# Altium footprint library SG__PCB_DIP_SIP.PcbLib: 17 footprints (part 1 of 2)
Each footprint in its own frame and in the unit in brackets; x right, y up, seen from the top. Pads: shape width x height; smd on the part's side, far side on the other; paste and mask are expansions set on the pad; w line width, h text height; cw(c..) or ccw(c..) is an arc to the next point about the centre after c.
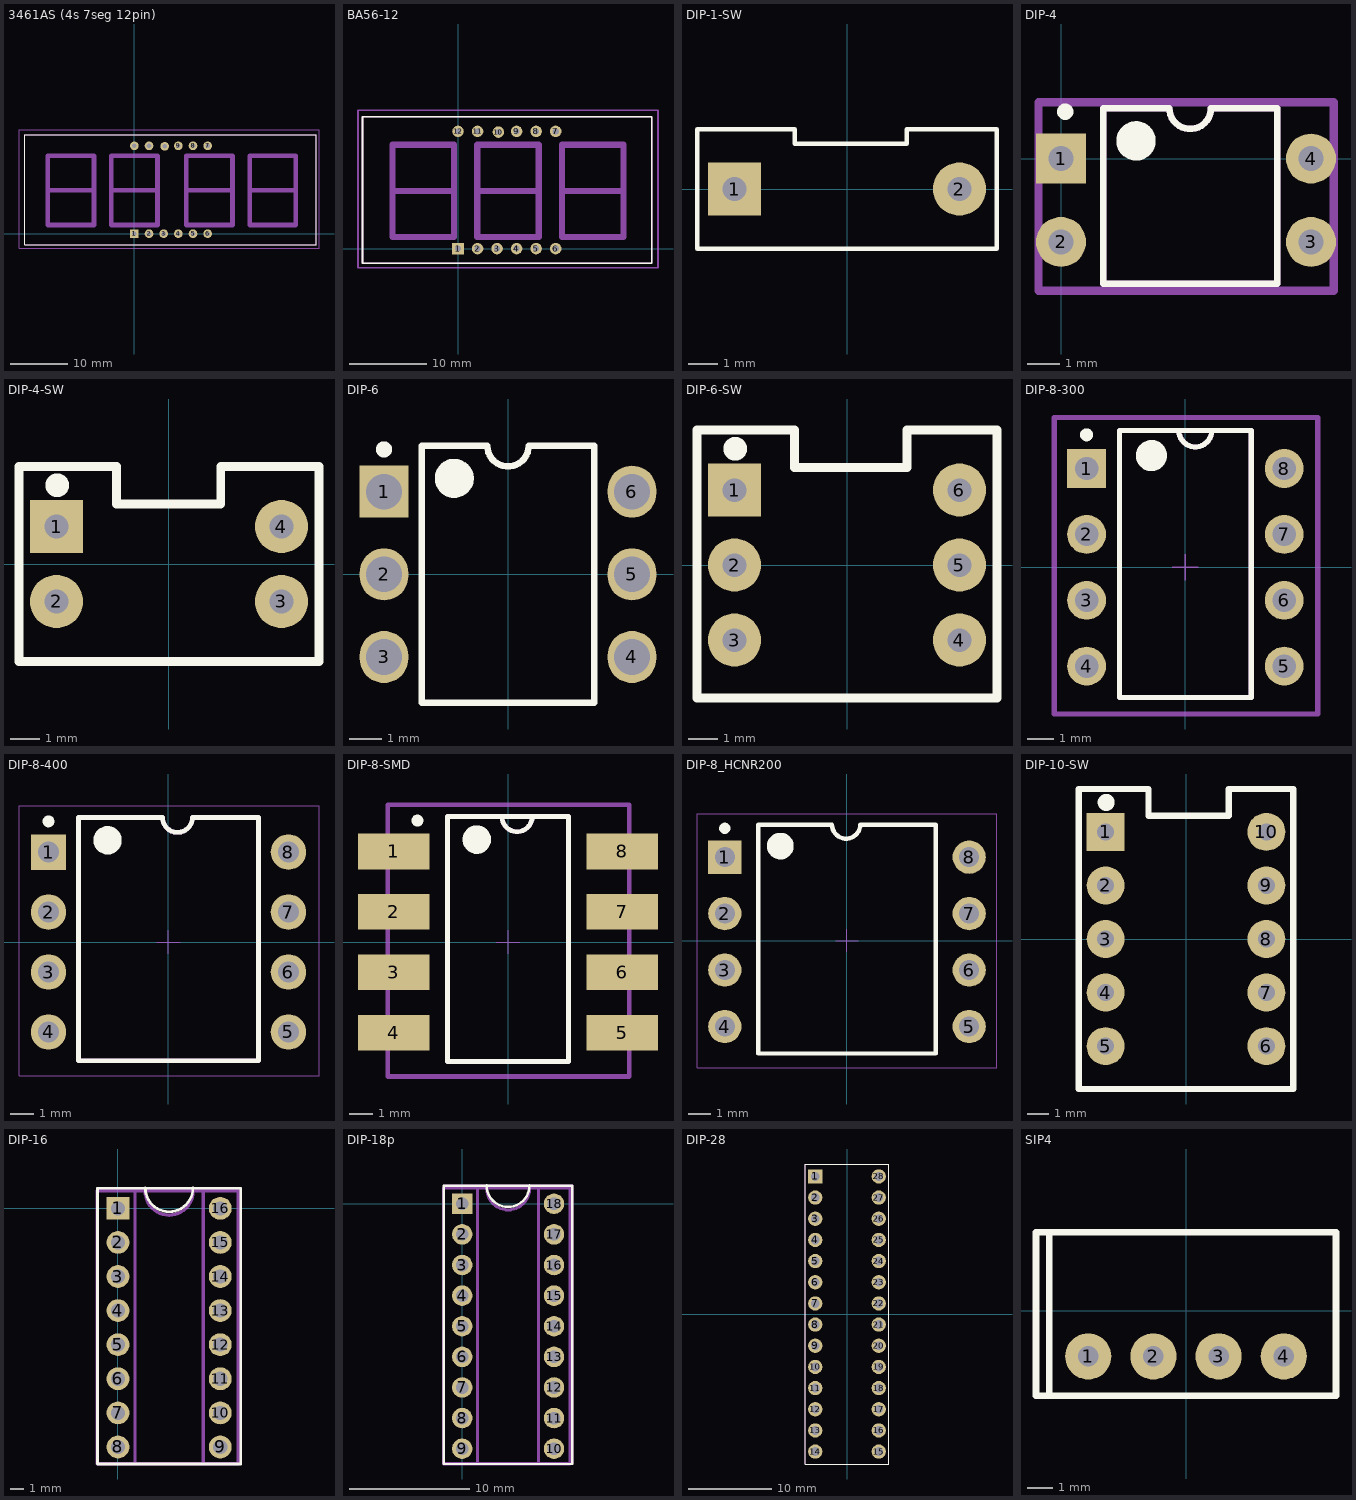
[diagram p0: the footprints below, top view; thin cyan lines are the x and y axes]

## 3461AS (4s 7seg 12pin) [mm] "4 digits 7segment dynamic indicator"
pads (12):
  rect 1.5x1.5 hole 0.8: 1(0,0)
  round 1.5 hole 0.8: 2(2.54,0) 3(5.08,0) 4(7.62,0) 5(10.16,0) 6(12.7,0) 7(12.7,15.24) 8(10.16,15.24) 9(7.62,15.24) 10(5.25,15.149) 11(2.54,15.24) 12(0,15.24)
Top Overlay:
  lines w0.2: -19,-1.887 -19,17.113 31.5,17.113 31.5,-1.887 -19,-1.887
Top Assembly:
  lines w0.2: -19,-1.887 -19,17.113 31.5,17.113 31.5,-1.887 -19,-1.887
  lines w0.8: -15,7.5 -7,7.5 ; -4,7.5 4,7.5 ; 9,7.5 17,7.5 ; 20,7.5 28,7.5 ; -15,1.5 -7,1.5 -7,13.5 -15,13.5 -15,1.5 ; -4,1.5 4,1.5 4,13.5 -4,13.5 -4,1.5 ; 9,1.5 17,1.5 17,13.5 9,13.5 9,1.5 ; 20,1.5 28,1.5 28,13.5 20,13.5 20,1.5
Top Courtyard:
  lines w0.2: -20,-2.5 -20,18 32,18 32,-2.5 -20,-2.5
3D body "7x4seg.step": height 10.5, standoff -2, extent -18.765,-1.887 31.535,17.113

## BA56-12 [mm] "3 digits 7segment dynamic indicator"
pads (12):
  rect 1.5x1.5 hole 0.8: 1(0,0)
  round 1.5 hole 0.8: 2(2.54,0) 3(5.08,0) 4(7.62,0) 5(10.16,0) 6(12.7,0) 7(12.7,15.24) 8(10.16,15.24) 9(7.62,15.24) 10(5.25,15.149) 11(2.54,15.24) 12(0,15.24)
Top Overlay:
  lines w0.2: -12.415,-1.887 25.185,-1.887 25.185,17.113 -12.415,17.113 -12.415,-1.887
Top Assembly:
  lines w0.2: -12.415,-1.887 25.185,-1.887 25.185,17.113 -12.415,17.113 -12.415,-1.887
  lines w0.8: -8.5,7.5 -0.5,7.5 ; 2.5,7.5 10.5,7.5 ; 13.5,7.5 21.5,7.5 ; -8.5,1.5 -0.5,1.5 -0.5,13.5 -8.5,13.5 -8.5,1.5 ; 2.5,1.5 10.5,1.5 10.5,13.5 2.5,13.5 2.5,1.5 ; 13.5,1.5 21.5,1.5 21.5,13.5 13.5,13.5 13.5,1.5
Top Courtyard:
  lines w0.2: -13,-2.5 26,-2.5 26,18 -13,18 -13,-2.5
3D body "BX56-12.stp": height 10, standoff -2.1, extent -12.415,-1.887 25.185,17.113

## DIP-1-SW [mm]
pads (2):
  rect 1.8x1.8 hole 0.8: 1(-3.81,0)
  round 1.8 hole 0.8: 2(3.81,0)
Top Overlay:
  lines w0.152: -5.08,-2.028 5.08,-2.028 5.08,2.032 2.032,2.032 2.032,1.532 -1.778,1.532 -1.778,2.032 -5.08,2.032 -5.08,-2.028

## DIP-4 [mil]
pads (4):
  rect 60x60 hole 30: 1(0,0)
  round 60 hole 30: 2(0,-100) 3(300,-100) 4(300,0)
Top Overlay:
  circle w23.62: c90.04,21.22 r11.81
  circle w9.84: c5,56.26 r4.92
  lines w7.87: 50.67,-150.43 259.33,-150.43 259.33,60.59 180,60.59 cw(c155,60.59) 130,60.59 50.67,60.59 50.67,-150.43
Top Assembly:
  lines w7.87: 50.67,-150.43 50.67,60.59 130,60.59 ccw(c155,60.59) 180,60.59 259.33,60.59 259.33,-150.43 50.67,-150.43
Top Courtyard:
  lines w10: -27.01,-158.58 327.32,-158.58 327.32,67.8 -27.01,67.8 -27.01,-158.58
3D body "dip4.stp": height 181.1, standoff -47.24, extent -9.84,-140 309.84,45.04

## DIP-4-SW [mm]
pads (4):
  rect 1.8x1.8 hole 0.8: 1(-3.81,1.27)
  round 1.8 hole 0.8: 2(-3.81,-1.27) 3(3.81,-1.27) 4(3.81,1.27)
Top Overlay:
  circle w0.6: c-3.785,2.667 r0.102
  lines w0.3: -1.78,3.302 -5.08,3.302 -5.08,-3.302 5.08,-3.302 5.08,3.302 ; -1.778,3.302 -1.778,2.032 1.754,2.032 1.754,3.302 5.054,3.302
3D body "dip_switch2.STEP": height 8.1, standoff -3, extent -5,-3.298 5,3.302

## DIP-6 [mm]
height 5.08
pads (6):
  rect 1.5x1.6 hole 1.1 mask+0.05: 1(-3.81,2.54)
  oval 1.5x1.6 hole 1.1 mask+0.05: 2(-3.81,0) 3(-3.81,-2.54) 4(3.81,-2.54) 5(3.81,0) 6(3.81,2.54)
Top Overlay:
  circle w0.6: c-1.65,2.95 r0.3
  circle w0.25: c-3.81,3.84 r0.125
  lines w0.2: -2.65,-3.95 -2.65,3.95 -0.635,3.95 ccw(c0,3.95) 0.635,3.95 2.65,3.95 2.65,-3.95 -2.65,-3.95
3D body "DIP6.STEP": height 4.3, standoff -3, extent -3.96,-3.595 3.91,3.525

## DIP-6-SW [mm]
pads (6):
  rect 1.8x1.8 hole 0.8: 1(-3.81,2.54)
  round 1.8 hole 0.8: 2(-3.81,0) 3(-3.81,-2.54) 4(3.81,-2.54) 5(3.81,0) 6(3.81,2.54)
Top Overlay:
  circle w0.6: c-3.785,3.937 r0.102
  lines w0.3: -5.08,-4.5 -5.08,4.572 -1.778,4.572 -1.778,3.302 2.032,3.302 2.032,4.572 5.08,4.572 5.08,-4.5 -5.08,-4.5
3D body "User Library-DS1040-03 (DIP_switch).step": height 6.8, standoff -3.85, extent -4.95,-4.58 4.95,4.5

## DIP-8-300 [mm] "DIP; 8 Leads; Row Spacing 7.62 mm; Pitch 2.54 mm"
height 5.08
pads (8):
  rect 1.5x1.5 hole 0.9: 1(-3.81,3.81)
  round 1.5 hole 0.9: 2(-3.81,1.27) 3(-3.81,-1.27) 4(-3.81,-3.81) 5(3.81,-3.81) 6(3.81,-1.27) 7(3.81,1.27) 8(3.81,3.81)
Top Overlay:
  circle w0.6: c-1.31,4.31 r0.3
  circle w0.25: c-3.81,5.11 r0.125
  lines w0.2: -0.254,5.277 ccw(c0.381,5.277) 1.016,5.277 ; 1.016,5.277 2.54,5.277 2.54,-5.023 -2.54,-5.023 -2.54,5.277 1.016,5.277
Top Assembly:
  lines w0.2: -0.254,5.277 ccw(c0.381,5.277) 1.016,5.277 ; 1.016,5.277 2.54,5.277 2.54,-5.023 -2.54,-5.023 -2.54,5.277 1.016,5.277
Top Courtyard:
  lines w0.2: 4.23,-5.655 5.105,-5.655 ; 4.23,5.775 5.105,5.775 ; 5.105,-5.655 5.105,5.775 ; 5.105,-5.655 -5.06,-5.655 -5.06,5.775 5.105,5.775
Mechanical 15:
  lines w0.05: -0.5,0 0.5,0 ; 0,-0.5 0,0.5
3D body "CircuitWorks-DIP8.STEP": height 5.19, standoff -1.67, extent -4.027,-5.625 3.847,5.805

## DIP-8-400 [mm] "DIP; 8 Leads; Row Spacing 7.62 mm; Pitch 2.54 mm"
height 5.08
pads (8):
  rect 1.5x1.5 hole 0.9: 1(-5.08,3.81)
  round 1.5 hole 0.9: 2(-5.08,1.27) 3(-5.08,-1.27) 4(-5.08,-3.81) 5(5.08,-3.81) 6(5.08,-1.27) 7(5.08,1.27) 8(5.08,3.81)
Top Overlay:
  circle w0.6: c-2.58,4.31 r0.3
  circle w0.25: c-5.08,5.11 r0.125
  lines w0.2: -3.81,-5.023 3.81,-5.023 3.81,5.277 1.016,5.277 cw(c0.381,5.277) -0.254,5.277 -3.81,5.277 -3.81,-5.023
Top Assembly:
  lines w0.2: -3.81,-5.023 3.81,-5.023 3.81,5.277 1.016,5.277 cw(c0.381,5.277) -0.254,5.277 -3.81,5.277 -3.81,-5.023
Top Courtyard:
  lines w0.05: -6.33,-5.655 -6.33,5.775 5.5,5.775 6.375,5.775 6.375,-5.655 5.5,-5.655 -6.33,-5.655
Mechanical 15:
  lines w0.05: -0.5,0 0.5,0 ; 0,-0.5 0,0.5
3D body "DIP-8-Wide.step": height 5.7, standoff -1.5, extent -5.129,-5.548 5.281,5.752

## DIP-8-SMD [mm] "DIP; 8 Leads; Row Spacing 7.62 mm; Pitch 2.54 mm"
height 5.08
pads (8):
  rect 3x1.5 smd: 1(-4.81,3.81) 2(-4.81,1.27) 3(-4.81,-1.27) 4(-4.81,-3.81) 5(4.81,-3.81) 6(4.81,-1.27) 7(4.81,1.27) 8(4.81,3.81)
Top Overlay:
  circle w0.6: c-1.31,4.31 r0.3
  circle w0.25: c-3.81,5.11 r0.125
  lines w0.2: -0.254,5.277 ccw(c0.381,5.277) 1.016,5.277 ; 1.016,5.277 2.54,5.277 2.54,-5.023 -2.54,-5.023 -2.54,5.277 1.016,5.277
Top Assembly:
  lines w0.2: -0.254,5.277 ccw(c0.381,5.277) 1.016,5.277 ; 1.016,5.277 2.54,5.277 2.54,-5.023 -2.54,-5.023 -2.54,5.277 1.016,5.277
Top Courtyard:
  lines w0.05: -0.5,0 0.5,0 ; 0,-0.5 0,0.5
  lines w0.2: 4.23,-5.655 5.105,-5.655 ; 4.23,5.775 5.105,5.775 ; 5.105,-5.655 5.105,5.775 ; 5.105,-5.655 -5.06,-5.655 -5.06,5.775 5.105,5.775
3D body "User Library-pdip8-smd.step": height 5.08, standoff 0, extent -5.15,-4.955 5.15,4.955

## DIP-8_HCNR200 [mm] "DIP; 8 Leads; Row Spacing 7.62 mm; Pitch 2.54 mm"
height 5.08
pads (8):
  rect 1.5x1.5 hole 0.9: 1(-5.5,3.75)
  round 1.5 hole 0.9: 2(-5.5,1.21) 3(-5.5,-1.33) 4(-5.5,-3.87) 5(5.5,-3.87) 6(5.5,-1.33) 7(5.5,1.21) 8(5.5,3.75)
Top Overlay:
  circle w0.25: c-5.5,5.05 r0.125
  circle w0.6: c-3,4.25 r0.3
  lines w0.2: -4,-5.083 -4,5.217 -0.674,5.217 ccw(c-0.039,5.217) 0.596,5.217 4,5.217 4,-5.083 -4,-5.083
Top Assembly:
  lines w0.05: -6.75,-5.715 5.08,-5.715 6.75,-5.715 6.75,5.715 5.08,5.715 -6.75,5.715 -6.75,-5.715
Mechanical 15:
  lines w0.05: -0.5,0 0.5,0 ; 0,-0.5 0,0.5

## DIP-10-SW [mm]
pads (10):
  rect 1.8x1.8 hole 0.8: 1(-3.81,5.08)
  round 1.8 hole 0.8: 2(-3.81,2.54) 3(-3.81,0) 4(-3.81,-2.54) 5(-3.81,-5.08) 6(3.81,-5.08) 7(3.81,-2.54) 8(3.81,0) 9(3.81,2.54) 10(3.81,5.08)
Top Overlay:
  circle w0.6: c-3.785,6.477 r0.102
  lines w0.3: -5.08,-7.112 -5.08,7.112 -1.778,7.112 -1.778,5.842 2.032,5.842 2.032,7.112 5.08,7.112 5.08,-7.112 -5.08,-7.112
3D body "User Library-DS1040-05 (DIP_switch).step": height 6.8, standoff -3.85, extent -5,-7.08 4.9,7.08

## DIP-16 [mm]
pads (16):
  rect 1.7x1.7 hole 1.05 mask+0.05: 1(0,0)
  round 1.7 hole 1.05 mask+0.05: 2(0,-2.54) 3(0,-5.08) 4(0,-7.62) 5(0,-10.16) 6(0,-12.7) 7(0,-15.24) 8(0,-17.78) 9(7.62,-17.78) 10(7.62,-15.24) 11(7.62,-12.7) 12(7.62,-10.16) 13(7.62,-7.62) 14(7.62,-5.08) 15(7.62,-2.54) 16(7.62,0)
Top Overlay:
  lines w0.2: 2.032,1.524 ccw(c3.81,1.524) 5.588,1.524 ; -1.524,-19.05 9.144,-19.05 9.144,1.49 -1.524,1.49 -1.524,-19.05
Top Assembly:
  lines w0.254: -1.524,1.301 -1.538,1.301 ; 1.27,-19 1.27,1.27 ; 2.032,1.27 ccw(c3.81,1.27) 5.588,1.27 ; 6.35,-19 6.35,1.27 ; -1.538,1.301 8.962,1.301 8.962,-19.028 -1.538,-19.028 -1.538,1.301
Top Courtyard:
  lines w0.15: -1.524,-19.05 9.144,-19.05 9.144,1.524 -1.524,1.524 -1.524,-19.028
3D body "CircuitWorks-DIP 16 IC.step": height 6.1, standoff -2.3, extent -0.135,-18.7 7.735,1.3

## DIP-18p [mm]
pads (18):
  rect 1.7x1.7 hole 1.05 mask+0.05: 1(0,0)
  round 1.7 hole 1.05 mask+0.05: 2(0,-2.54) 3(0,-5.08) 4(0,-7.62) 5(0,-10.16) 6(0,-12.7) 7(0,-15.24) 8(0,-17.78) 9(0,-20.32) 10(7.62,-20.32) 11(7.62,-17.78) 12(7.62,-15.24) 13(7.62,-12.7) 14(7.62,-10.16) 15(7.62,-7.62) 16(7.62,-5.08) 17(7.62,-2.54) 18(7.62,0)
Top Overlay:
  lines w0.2: 2.032,1.524 ccw(c3.81,1.524) 5.588,1.524 ; -1.524,-21.59 9.144,-21.59 9.144,1.49 -1.524,1.49 -1.524,-21.59
Top Assembly:
  lines w0.254: -1.524,1.301 -1.538,1.301 ; 1.27,-21.59 1.27,1.27 ; 2.032,1.27 ccw(c3.81,1.27) 5.588,1.27 ; 6.35,-21.59 6.35,1.27 ; -1.538,1.301 -1.538,-21.568 8.962,-21.568 8.962,1.301 -1.538,1.301
Top Courtyard:
  lines w0.15: -1.524,-21.59 -1.524,1.524 9.144,1.524 9.144,-21.59 -1.524,-21.59
3D body "DIP18_panel.step": height 3.47, standoff -2.87, extent -1.44,-21.599 9.06,1.27
3D body "DIP18-300.step": height 8.58, standoff 1.01, extent -0.125,-21.655 7.745,1.335

## DIP-28 [mm]
pads (28):
  rect 1.7x1.7 hole 1.05 mask+0.05: 1(-3.81,16.51)
  round 1.7 hole 1.05 mask+0.05: 2(-3.81,13.97) 3(-3.81,11.43) 4(-3.81,8.89) 5(-3.81,6.35) 6(-3.81,3.81) 7(-3.81,1.27) 8(-3.81,-1.27) 9(-3.81,-3.81) 10(-3.81,-6.35) 11(-3.81,-8.89) 12(-3.81,-11.43) 13(-3.81,-13.97) 14(-3.81,-16.51) 15(3.81,-16.51) 16(3.81,-13.97) 17(3.81,-11.43) 18(3.81,-8.89) 19(3.81,-6.35) 20(3.81,-3.81) 21(3.81,-1.27) 22(3.81,1.27) 23(3.81,3.81) 24(3.81,6.35) 25(3.81,8.89) 26(3.81,11.43) 27(3.81,13.97) 28(3.81,16.51)
Top Overlay:
  lines w0.15: -5,-18 -5,18 5,18 5,-18 -5,-18
Top Courtyard:
  lines w0.15: -5,-18 5,-18 5,18 -5,18 -5,-18
3D body "DIP28-300.step": height 5.08, standoff -2.49, extent -3.935,-18 3.935,18

## SIP4 [mm]
pads (4):
  round 1.8 hole 0.8: 1(-3.81,-1.778) 2(-1.27,-1.778) 3(1.27,-1.778) 4(3.81,-1.778)
Top Overlay:
  lines w0.254: -5.334,-3.302 -5.334,3.048 ; -5.842,-3.302 5.842,-3.302 5.842,3.048 -5.842,3.048 -5.842,-3.302
3D body "SIP4.step": height 10.65, standoff -2.55, extent -5.842,-3.048 5.842,2.952